# Altium schematic symbol library TSW-102-07-G-S.SchLib: 1 symbol
Pins are listed as number, name and electrical type; pins without a type are passive.

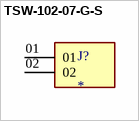
[diagram p0: symbol TSW-102-07-G-S]

## TSW-102-07-G-S
designator J?
<a href="https://pricing.snapeda.com/parts/TSW-102-07-G-S/Samtec/view-part?ref=eda">Check availability</a>; MF: Samtec Inc.; Package: None; Price: None; Value: *; MP: TSW-102-07-G-S; Availability: Unavailable
footprint SAMTEC_TSW-102-07-G-S
pins: 01, 02